# EAGLE library part HELIX_4_REV_C (library thin_layer)
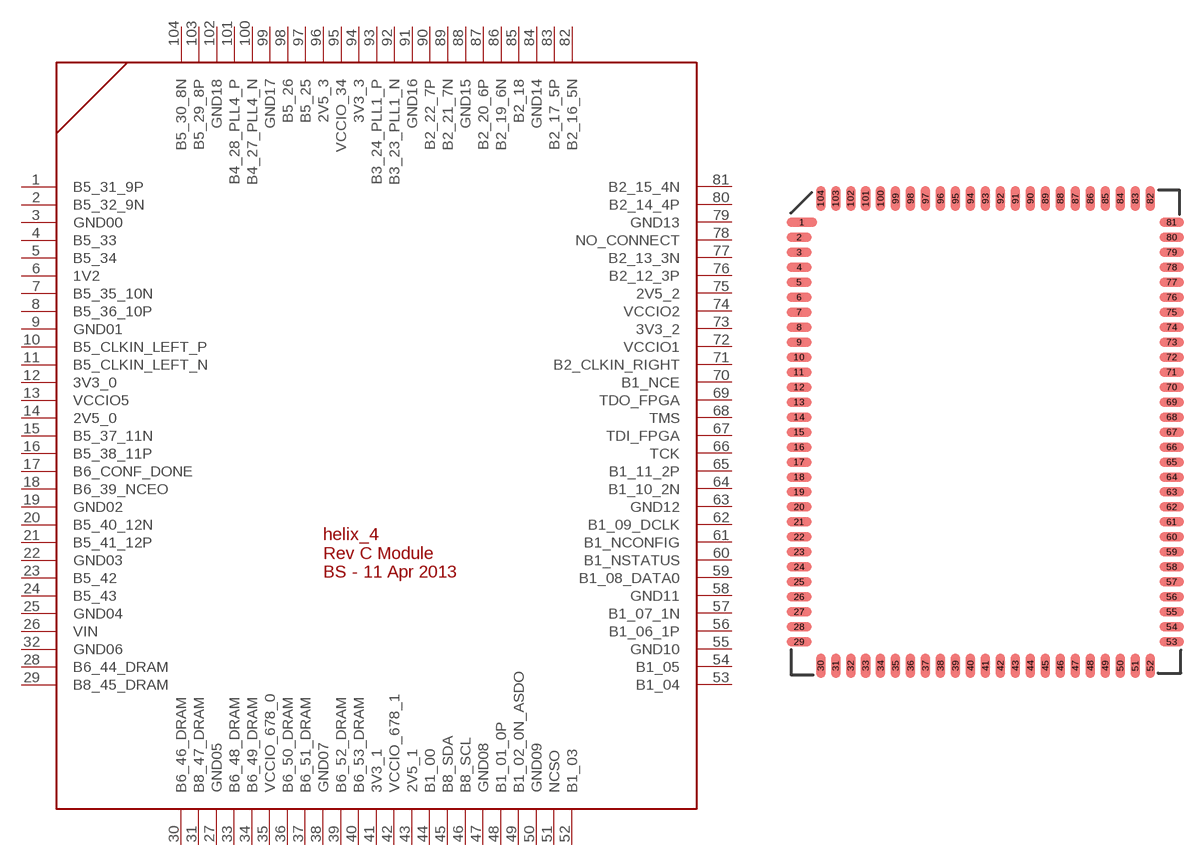
[diagram p1: symbol with the pads of HELIX_4_REVB_LCC104; footprint HELIX_4_REVB_LCC104]

Designator prefix -

## HELIX_4_REV_C  [HELIX_4_REVB_LCC104]
1  B5_31_9P
2  B5_32_9N
3  GND00
4  B5_33
5  B5_34
6  1V2
7  B5_35_10N
8  B5_36_10P
9  GND01
10  B5_CLKIN_LEFT_P
11  B5_CLKIN_LEFT_N
12  3V3_0
13  VCCIO5
14  2V5_0
15  B5_37_11N
16  B5_38_11P
17  B6_CONF_DONE
18  B6_39_NCEO
19  GND02
20  B5_40_12N
21  B5_41_12P
22  GND03
23  B5_42
24  B5_43
25  GND04
26  VIN
27  GND05
28  B6_44_DRAM
29  B8_45_DRAM
30  B6_46_DRAM
31  B8_47_DRAM
32  GND06
33  B6_48_DRAM
34  B6_49_DRAM
35  VCCIO_678_0
36  B6_50_DRAM
37  B6_51_DRAM
38  GND07
39  B6_52_DRAM
40  B6_53_DRAM
41  3V3_1
42  VCCIO_678_1
43  2V5_1
44  B1_00
45  B8_SDA
46  B8_SCL
47  GND08
48  B1_01_0P
49  B1_02_0N_ASDO
50  GND09
51  NCSO
52  B1_03
53  B1_04
54  B1_05
55  GND10
56  B1_06_1P
57  B1_07_1N
58  GND11
59  B1_08_DATA0
60  B1_NSTATUS
61  B1_NCONFIG
62  B1_09_DCLK
63  GND12
64  B1_10_2N
65  B1_11_2P
66  TCK
67  TDI_FPGA
68  TMS
69  TDO_FPGA
70  B1_NCE
71  B2_CLKIN_RIGHT
72  VCCIO1
73  3V3_2
74  VCCIO2
75  2V5_2
76  B2_12_3P
77  B2_13_3N
78  NO_CONNECT
79  GND13
80  B2_14_4P
81  B2_15_4N
82  B2_16_5N
83  B2_17_5P
84  GND14
85  B2_18
86  B2_19_6N
87  B2_20_6P
88  GND15
89  B2_21_7N
90  B2_22_7P
91  GND16
92  B3_23_PLL1_N
93  B3_24_PLL1_P
94  3V3_3
95  VCCIO_34
96  2V5_3
97  B5_25
98  B5_26
99  GND17
100  B4_27_PLL4_N
101  B4_28_PLL4_P
102  GND18
103  B5_29_8P
104  B5_30_8N

## Footprint HELIX_4_REVB_LCC104 (pad centres in mm)
smd 2.6 x 0.813: 1 -15.55,17.78
smd 2.1 x 0.813: 2 -15.8,16.51; 3 -15.8,15.24; 4 -15.8,13.97; 5 -15.8,12.7; 6 -15.8,11.43; 7 -15.8,10.16; 8 -15.8,8.89; 9 -15.8,7.62; 10 -15.8,6.35; 11 -15.8,5.08; 12 -15.8,3.81; 13 -15.8,2.54; 14 -15.8,1.27; 15 -15.8,0; 16 -15.8,-1.27; 17 -15.8,-2.54; 18 -15.8,-3.81; 19 -15.8,-5.08; 20 -15.8,-6.35; 21 -15.8,-7.62; 22 -15.8,-8.89; 23 -15.8,-10.16; 24 -15.8,-11.43; 25 -15.8,-12.7; 26 -15.8,-13.97; 27 -15.8,-15.24; 28 -15.8,-16.51; 29 -15.8,-17.78; 53 15.8,-17.78; 54 15.8,-16.51; 55 15.8,-15.24; 56 15.8,-13.97; 57 15.8,-12.7; 58 15.8,-11.43; 59 15.8,-10.16; 60 15.8,-8.89; 61 15.8,-7.62; 62 15.8,-6.35; 63 15.8,-5.08; 64 15.8,-3.81; 65 15.8,-2.54; 66 15.8,-1.27; 67 15.8,0; 68 15.8,1.27; 69 15.8,2.54; 70 15.8,3.81; 71 15.8,5.08; 72 15.8,6.35; 73 15.8,7.62; 74 15.8,8.89; 75 15.8,10.16; 76 15.8,11.43; 77 15.8,12.7; 78 15.8,13.97; 79 15.8,15.24; 80 15.8,16.51; 81 15.8,17.78
smd 0.813 x 2.1: 30 -13.97,-19.8; 31 -12.7,-19.8; 32 -11.43,-19.8; 33 -10.16,-19.8; 34 -8.89,-19.8; 35 -7.62,-19.8; 36 -6.35,-19.8; 37 -5.08,-19.8; 38 -3.81,-19.8; 39 -2.54,-19.8; 40 -1.27,-19.8; 41 0,-19.8; 42 1.27,-19.8; 43 2.54,-19.8; 44 3.81,-19.8; 45 5.08,-19.8; 46 6.35,-19.8; 47 7.62,-19.8; 48 8.89,-19.8; 49 10.16,-19.8; 50 11.43,-19.8; 51 12.7,-19.8; 52 13.97,-19.8; 82 13.97,19.8; 83 12.7,19.8; 84 11.43,19.8; 85 10.16,19.8; 86 8.89,19.8; 87 7.62,19.8; 88 6.35,19.8; 89 5.08,19.8; 90 3.81,19.8; 91 2.54,19.8; 92 1.27,19.8; 93 0,19.8; 94 -1.27,19.8; 95 -2.54,19.8; 96 -3.81,19.8; 97 -5.08,19.8; 98 -6.35,19.8; 99 -7.62,19.8; 100 -8.89,19.8; 101 -10.16,19.8; 102 -11.43,19.8; 103 -12.7,19.8; 104 -13.97,19.8